# EAGLE library part JST-06 (library LX_Eagle_Lib)
6 Pin JST Header PH Series SMD Mount
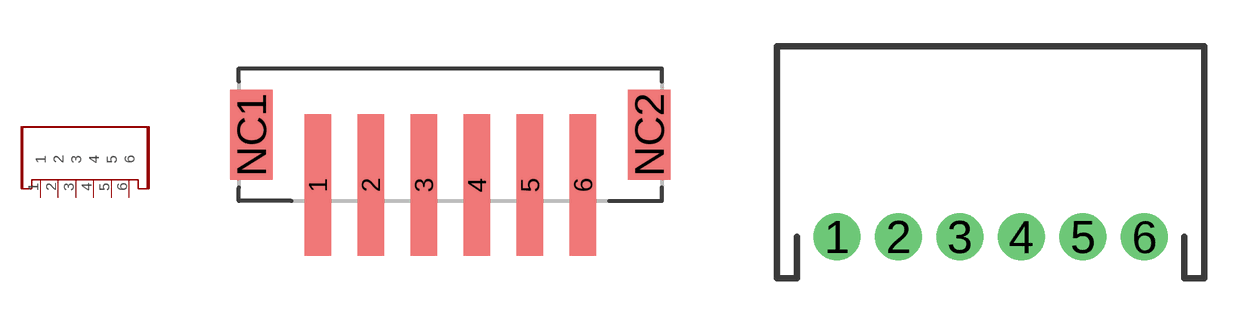
[diagram p1: symbol with the pads of JST06-TOP; footprints JST06-TOP, JST06-SIDE-TH]

Designator prefix J

## JST-06TOP  [JST06-TOP]
1  1
2  2
3  3
4  4
5  5
6  6

## JST-06SIDE  [JST06-SIDE-TH]
Pads as for JST06-TOP

## Footprint JST06-TOP (pad centres in mm)
6 Pin JST PH Series SMD Top Entry Type
smd 1 x 5.35: 1 -5,0; 2 -3,0; 3 -1,0; 4 1,0; 5 3,0; 6 5,0
smd 1.6 x 3.4: NC1 -7.5,1.9; NC2 7.5,1.9

## Footprint JST06-SIDE-TH (pad centres in mm)
drill 0.762 pad 1.524: 1 -5,0; 2 -3,0; 3 -1,0; 4 1,0; 5 3,0; 6 5,0